# Altium footprint library Module.PcbLib: 2 footprints
Each footprint in its own frame and in the unit in brackets; x right, y up, seen from the top. Pads: shape width x height; smd on the part's side, far side on the other; paste and mask are expansions set on the pad; w line width, h text height; cw(c..) or ccw(c..) is an arc to the next point about the centre after c.
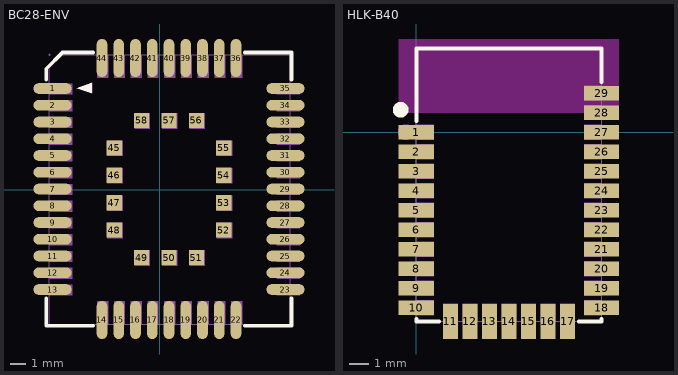
[diagram p0: the footprints below, top view; thin cyan lines are the x and y axes]

## BC28-ENV [mm]
pads (58):
  oval 2.5x0.7 smd paste+0 mask+0.05: 1(-7.029,6.633) 2(-7.029,5.533) 3(-7.029,4.434) 4(-7.029,3.333) 5(-7.029,2.233) 6(-7.029,1.134) 7(-7.029,0.033) 8(-7.029,-1.067) 9(-7.029,-2.167) 10(-7.029,-3.267) 11(-7.029,-4.367) 12(-7.029,-5.467) 13(-7.029,-6.566) 23(8.271,-6.566) 24(8.271,-5.467) 25(8.271,-4.367) 26(8.271,-3.267) 27(8.271,-2.166) 28(8.271,-1.067) 29(8.271,0.033) 30(8.271,1.134) 31(8.271,2.233) 32(8.271,3.333) 33(8.271,4.434) 34(8.271,5.534) 35(8.271,6.633)
  oval 0.7x2.5 smd paste+0 mask+0.05: 14(-3.779,-8.566) 15(-2.679,-8.566) 16(-1.579,-8.566) 17(-0.479,-8.566) 18(0.621,-8.566) 19(1.721,-8.566) 20(2.821,-8.566) 21(3.921,-8.566) 22(5.021,-8.566) 36(5.021,8.633) 37(3.921,8.633) 38(2.821,8.633) 39(1.721,8.633) 40(0.621,8.633) 41(-0.479,8.633) 42(-1.579,8.633) 43(-2.679,8.633) 44(-3.779,8.633)
  rect 1x1 smd paste+0 mask+0.05: 45(-2.979,2.733) 46(-2.979,0.933) 47(-2.979,-0.866) 48(-2.979,-2.667) 49(-1.179,-4.467) 50(0.621,-4.467) 51(2.421,-4.467) 52(4.221,-2.667) 53(4.221,-0.866) 54(4.221,0.933) 55(4.221,2.733) 56(2.421,4.533) 57(0.621,4.533) 58(-1.179,4.533)
Top Overlay:
  region: -5.422,6.633 -4.442,7.013 -4.442,6.333
  lines w0.254: -7.439,-7.148 -7.439,-8.947 -4.36,-8.947 ; -7.439,7.215 -7.439,7.933 -6.379,8.993 -4.36,8.993 ; 5.602,-8.947 8.661,-8.947 8.661,-7.148 ; 5.602,8.993 8.661,8.993 8.661,7.215
Mechanical 6:
  region: -5.412,6.633 -4.432,7.013 -4.432,6.333
Mechanical 15:
  drawing of 64 lines, arcs and shapes, not listed

## HLK-B40 [mm]
pads (29):
  rect 1.8x0.75 smd paste+0 mask+0.05: 1(0,0) 2(0,-1) 3(0,-2) 4(0,-3) 5(0,-4) 6(0,-5) 7(0,-6) 8(0,-7) 9(0,-8) 10(0,-9) 18(9.5,-9) 19(9.5,-8) 20(9.5,-7) 21(9.5,-6) 22(9.5,-5) 23(9.5,-4) 24(9.5,-3) 25(9.5,-2) 26(9.5,-1) 27(9.5,0) 28(9.5,1) 29(9.5,2)
  rect 0.75x1.8 smd paste+0 mask+0.05: 11(1.75,-9.7) 12(2.75,-9.7) 13(3.75,-9.7) 14(4.75,-9.7) 15(5.75,-9.7) 16(6.75,-9.7) 17(7.75,-9.7)
Top Overlay:
  circle w0.4: c-0.8,1.15 r0.2
  lines w0.2: 0,-9.579 0,-9.7 1.171,-9.7 ; 0,0.579 0,4.3 ; 0.05,4.3 9.5,4.3 9.5,2.579 ; 8.329,-9.7 9.5,-9.7 9.5,-9.579
Mechanical 6:
  circle w0.4: c-0.55,0 r0.2
Mechanical 15:
  drawing of 34 lines, arcs and shapes, not listed
Multi-Layer keep-out:
  region: -0.892,1 10.385,1 10.385,4.777 -0.892,4.777